# Altium footprint library TO508P997X444X1905-2.PcbLib: 1 footprints
Each footprint in its own frame and in the unit in brackets; x right, y up, seen from the top. Pads: shape width x height; smd on the part's side, far side on the other; paste and mask are expansions set on the pad; w line width, h text height; cw(c..) or ccw(c..) is an arc to the next point about the centre after c.
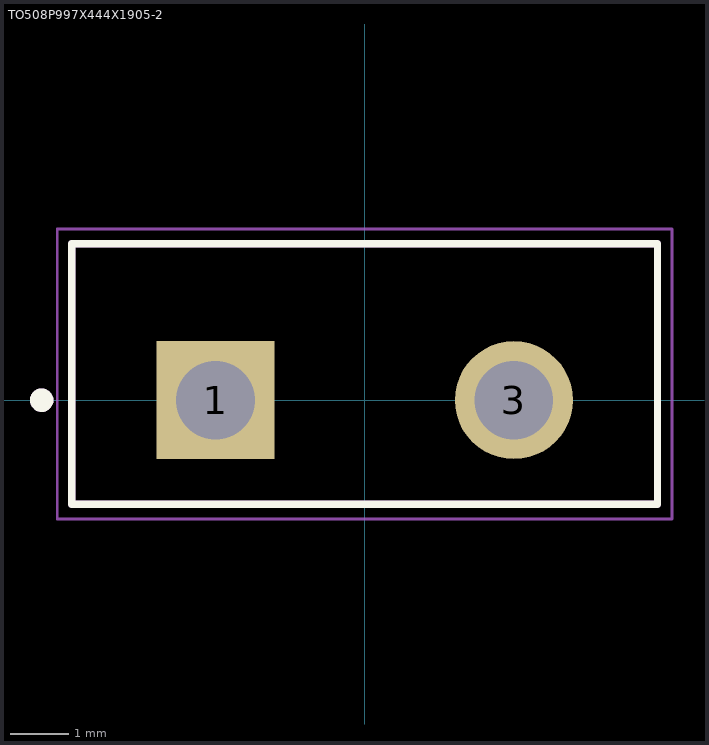
[diagram p0: the footprint, top view; thin cyan lines are the x and y axes]

## TO508P997X444X1905-2 [mm]
height 19.05
pads (2):
  rect 2.01x2.01 hole 1.34: 1(-2.54,0)
  round 2.01 hole 1.34: 3(2.54,0)
Top Overlay:
  circle w0.2: c-5.5,0 r0.1
  lines w0.127: -4.985,-1.775 4.985,-1.775 4.985,2.665 -4.985,2.665 -4.985,-1.775
Mechanical 13:
  circle w0.2: c-5.5,0 r0.1
  lines w0.127: -4.985,-1.775 4.985,-1.775 4.985,2.665 -4.985,2.665 -4.985,-1.775
Mechanical 15:
  lines w0.05: -5.235,-2.025 5.235,-2.025 5.235,2.915 -5.235,2.915 -5.235,-2.025
3D body "step_temp.STEP": height 19.05, standoff -10.97, extent -4.985,-1.784 4.985,2.661